# EAGLE library part MICRO-USB-FCI-10103592 (library micro-usb-fci-10103592)
Micro USB B Connector RS No: 714-2334 MRF No: 10103592-0001LF
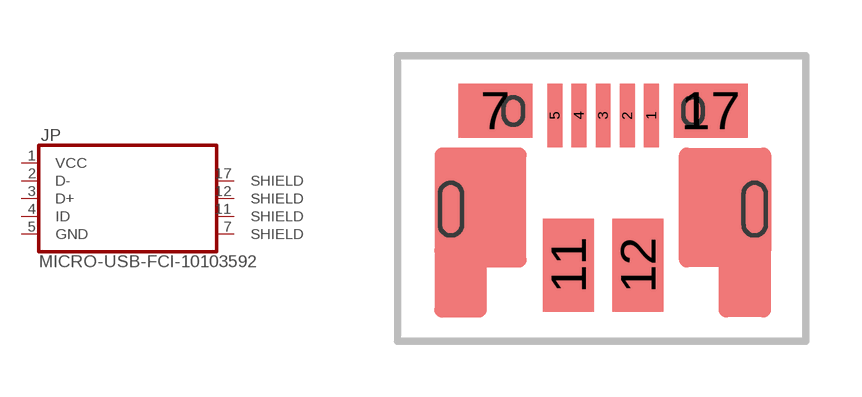
[diagram p0: symbol with the pads of MICRO-USB-FCI-10103592; footprint MICRO-USB-FCI-10103592]

Designator prefix JP

## MICRO-USB-FCI-10103592  [MICRO-USB-FCI-10103592]
1  VCC
2  D-
3  D+
4  ID
5  GND
7  SHIELD
11  SHIELD
12  SHIELD
17  SHIELD

## Footprint MICRO-USB-FCI-10103592 (pad centres in mm)
smd 0.4 x 1.71: 1 3.84,2.51; 2 3.19,2.51; 3 2.54,2.51; 4 1.89,2.51; 5 1.24,2.51
smd 2 x 1.46: 7 -0.36,2.64; 17 5.44,2.64
smd 1.375 x 2.5: 11 1.603,-1.52; 12 3.478,-1.52